# EAGLE library part TP4056-42-ESOP8 (library TP4056-42-ESOP8)
f Source: Datasheet <https://datasheet.lcsc.com/szlcsc/1906261508_Nanjing-Extension-Microelectronics-TP4056-42-ESOP8_C16581.pdf>
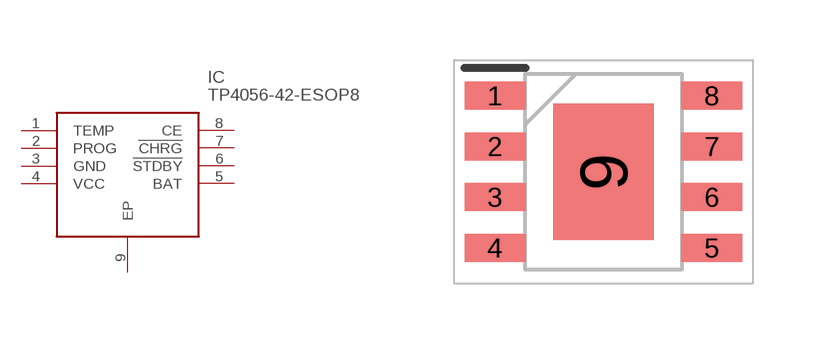
[diagram p0: symbol with the pads of SOIC127P600X175-9N; footprint SOIC127P600X175-9N]

Designator prefix IC

## TP4056-42-ESOP8 (Arrow_Part_Number: TP4056-42-ESOP8; Description: f; Height: 1.75mm; Manufacturer_Name: NanJing Top Power; Manufacturer_Part_Number: TP4056-42-ESOP8)  [SOIC127P600X175-9N]
1  TEMP
2  PROG
3  GND
4  VCC
5  BAT
6  !STDBY
7  !CHRG
8  CE
9  EP

## Footprint SOIC127P600X175-9N (pad centres in mm)
esop
smd 1.525 x 0.7: 1 -2.712,1.905; 2 -2.712,0.635; 3 -2.712,-0.635; 4 -2.712,-1.905; 5 2.712,-1.905; 6 2.712,-0.635; 7 2.712,0.635; 8 2.712,1.905
smd 2.513 x 3.402: 9 0,0